# EAGLE library part TMS-105-JTAG (library TMS-110-XX-XX-D-plus-Trace-JTAG)
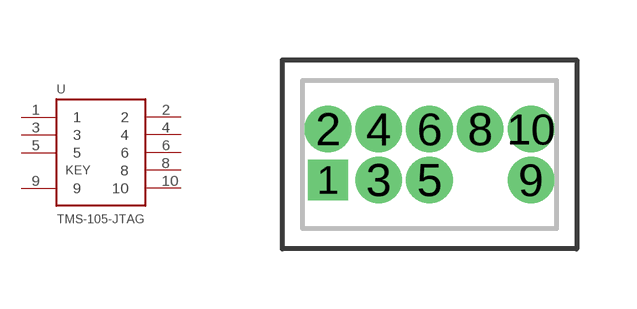
[diagram p2: symbol with the pads of TMS105-JTAG; footprint TMS105-JTAG]

Designator prefix -

## TMS-105-JTAG  [TMS105-JTAG]
1  1
2  2
3  3
4  4
5  5
6  6
8  8
9  9
10  10

## Footprint TMS105-JTAG (pad centres in mm)
drill 0.5 pad 0.914 square: 1 -2.54,0
drill 0.66 pad 0.813 round: 2 -2.54,1.27
drill 0.66 pad 0.914 round: 3 -1.27,0; 4 -1.27,1.27; 5 0,0; 6 0,1.27; 8 1.27,1.27; 9 2.54,0; 10 2.54,1.27